# EAGLE library part LEDDISPLAY8X8 (library DISPLAYLED8X8)
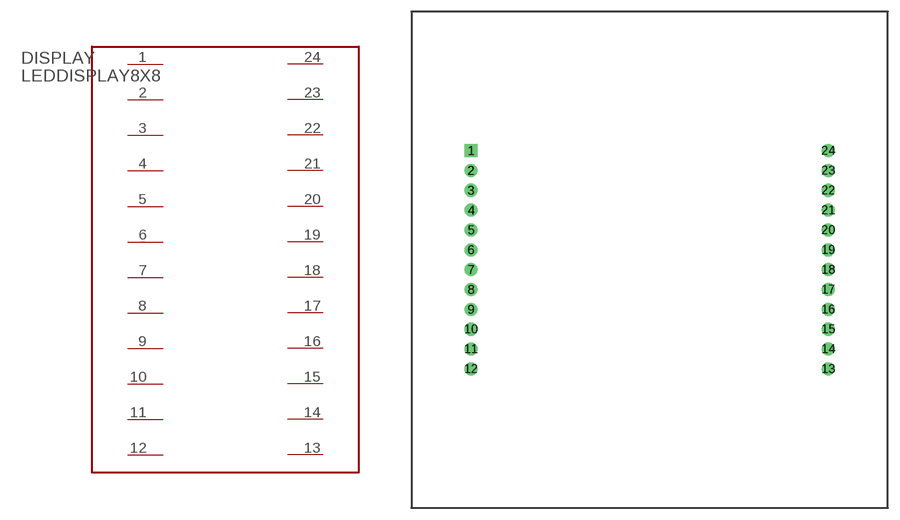
[diagram p0: symbol with the pads of LEDDISPLAY8X8; footprint LEDDISPLAY8X8]

Designator prefix DISPLAY

## LEDDISPLAY8X8  [LEDDISPLAY8X8]
1  P$1
2  P$2
3  P$3
4  P$4
5  P$5
6  P$6
7  P$7
8  P$8
9  P$9
10  P$10
11  P$11
12  P$12
13  P$13
14  P$14
15  P$15
16  P$16
17  P$17
18  P$18
19  P$19
20  P$20
21  P$21
22  P$22
23  P$23
24  P$24

## Footprint LEDDISPLAY8X8 (pad centres in mm)
drill 0.889 pad 1.676 square: 1 0,0
drill 0.889 pad 1.676 round: 2 0,-2.54; 3 0,-5.08; 4 0,-7.62; 5 0,-10.16; 6 0,-12.7; 7 0,-15.24; 8 0,-17.78; 9 0,-20.32; 10 0,-22.86; 11 0,-25.4; 12 0,-27.94; 13 45.72,-27.94; 14 45.72,-25.4; 15 45.72,-22.86; 16 45.72,-20.32; 17 45.72,-17.78; 18 45.72,-15.24; 19 45.72,-12.7; 20 45.72,-10.16; 21 45.72,-7.62; 22 45.72,-5.08; 23 45.72,-2.54; 24 45.72,0